# EAGLE library part GY521 (library Accelerometer_Gyroscope)
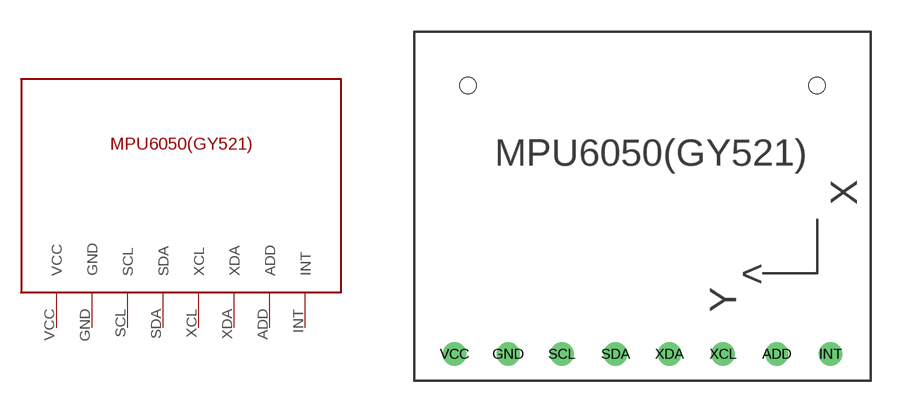
[diagram p1: symbol with the pads of GY521; footprint GY521]

Designator prefix -

## GY521  [GY521]
ADD  ADD
GND  GND
INT  INT
SCL  SCL
SDA  SDA
VCC  VCC
XCL  XCL
XDA  XDA

## Footprint GY521 (pad centres in mm)
MPU6050, Dimensions (excluding pins): 21.2mm (0.84") length x 16.4mm (0.65") width x 3.3mm (0.13") height
drill 0.6: ADD 17.145,1.27; GND 4.445,1.27; INT 19.685,1.27; SCL 6.985,1.27; SDA 9.525,1.27; VCC 1.905,1.27; XCL 14.605,1.27; XDA 12.065,1.27
hole 0.762 at 2.54,13.97
hole 0.762 at 19.05,13.97